# EAGLE library part NANO-18 (library basicmicro)
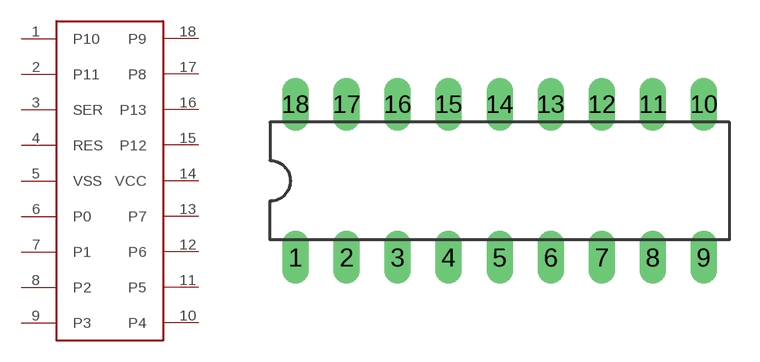
[diagram p8: symbol with the pads of DIL18; footprint DIL18]

Designator prefix -

## NANO-18  [DIL18]
1  P10
2  P11
3  SER  pwr
4  RES  pwr
5  VSS
6  P0
7  P1
8  P2
9  P3
10  P4
11  P5
12  P6
13  P7
14  VCC  pwr
15  P12
16  P13
17  P8
18  P9

## Footprint DIL18 (pad centres in mm)
drill 0.813 long: 1 -10.16,-3.81; 2 -7.62,-3.81; 3 -5.08,-3.81; 4 -2.54,-3.81; 5 0,-3.81; 6 2.54,-3.81; 7 5.08,-3.81; 8 7.62,-3.81; 9 10.16,-3.81; 10 10.16,3.81; 11 7.62,3.81; 12 5.08,3.81; 13 2.54,3.81; 14 0,3.81; 15 -2.54,3.81; 16 -5.08,3.81; 17 -7.62,3.81; 18 -10.16,3.81